# Altium schematic symbol library TMP1075.Schlib: 1 symbol
Pins are listed as number, name and electrical type; pins without a type are passive.

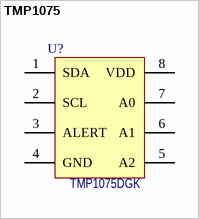
[diagram p0: symbol TMP1075]

## TMP1075
designator U?  Наименование: TMP1075DGK  (hidden comment: TMP1075)
TMP1075 Temperature Sensor With I2C and SMBus Interface; Назначение: Датчик температуры I2C; Потребление, Вт: 0,001; ComponentLink1Description: DataSheet; ComponentLink1URL: https://www.ti.com/lit/gpn/tmp1075
footprint SOIC-8
footprint WSON-8
footprint VSSOP-8
pins: 1 SDA, 2 SCL, 3 ALERT, 4 GND, 5 A2, 6 A1, 7 A0, 8 VDD, 9 GND